# Altium footprint library PowerDistLib.PcbLib: 31 footprints (part 2 of 2)
Each footprint in its own frame and in the unit in brackets; x right, y up, seen from the top. Pads: shape width x height; smd on the part's side, far side on the other; paste and mask are expansions set on the pad; w line width, h text height; cw(c..) or ccw(c..) is an arc to the next point about the centre after c.
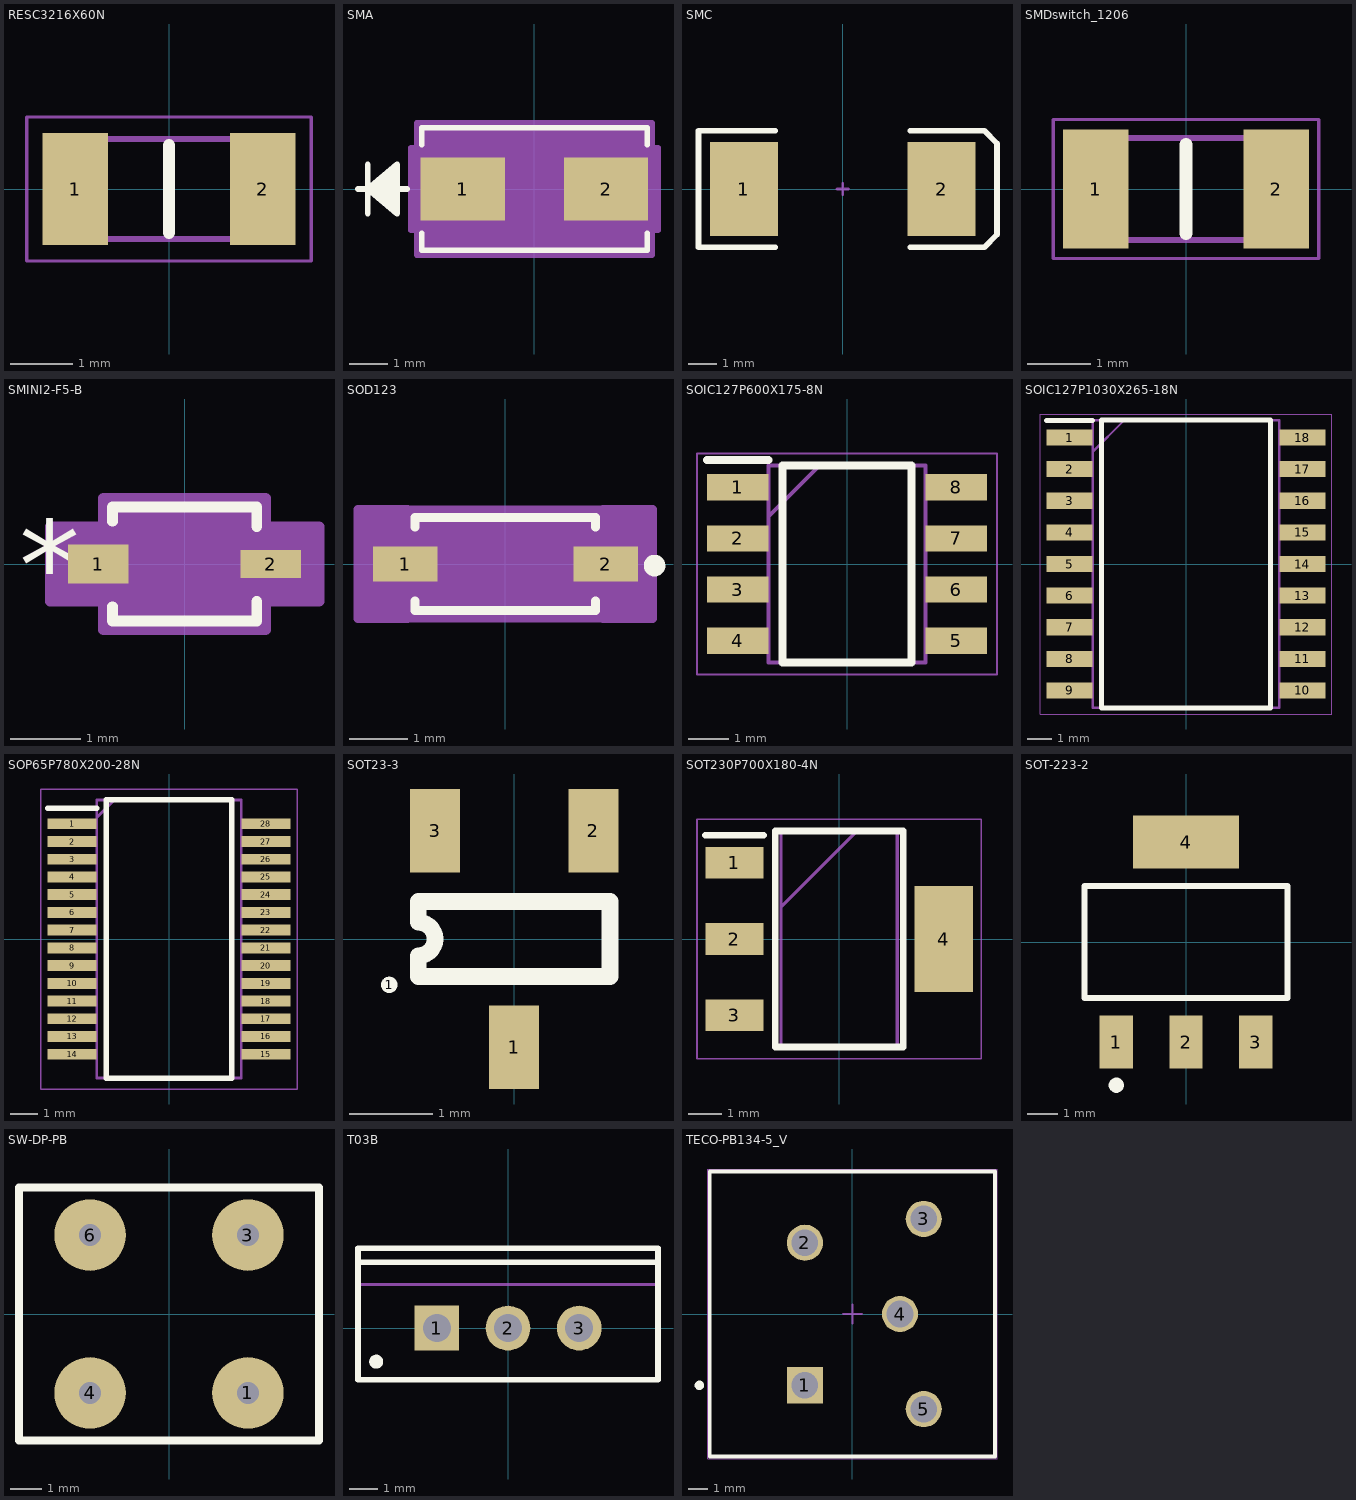
[diagram p1: the footprints below, top view; thin cyan lines are the x and y axes]

## RESC3216X60N [mm]
pads (2):
  rect 1.05x1.8 smd: 1(-1.5,0) 2(1.5,0)
Top Overlay:
  lines w0.2: 0,-0.7 0,0.7
Mechanical 15:
  lines w0.1: -1.575,-0.8 -1.575,0.8 1.575,0.8 1.575,-0.8 -1.575,-0.8
Mechanical 16:
  lines w0.05: -2.275,-1.15 -2.275,1.15 2.275,1.15 2.275,-1.15 -2.275,-1.15
3D body "CRCW12063K30FKEAC.stp": height 0.6, standoff 0, extent -1.575,-0.825 1.575,0.775
3D body: height 1.2, standoff 0, extent 0,-0.025 0,-0.025

## SMA [mm]
pads (2):
  rect 2.18x1.63 smd paste+0 mask+0: 1(-1.857,0) 2(1.857,0)
Top Overlay:
  lines w0.152: -4.573,0 -3.303,0 ; -4.319,-0.635 -4.319,0.635 ; -3.557,-0.508 -4.319,0 ; -3.557,-0.381 -4.319,0 ; -3.557,-0.254 -4.319,0 ; -3.557,-0.127 -4.319,0 ; -3.557,0.127 -4.319,0 ; -3.557,0.254 -4.319,0 ; -3.557,0.381 -4.319,0 ; -3.557,0.508 -4.319,0 ; -2.922,-1.148 -2.922,-1.587 2.922,-1.587 2.922,-1.148 ; -2.922,1.148 -2.922,1.587 2.922,1.587 2.922,1.148 ; -4.319,0 -3.557,-0.635 -3.557,0.635 -4.319,0
Mechanical 13:
  lines w0.025: -4.573,0 -3.303,0 ; -4.319,-0.635 -4.319,0.635 ; -3.557,-0.508 -4.319,0 ; -3.557,-0.381 -4.319,0 ; -3.557,-0.254 -4.319,0 ; -3.557,-0.127 -4.319,0 ; -3.557,0.127 -4.319,0 ; -3.557,0.254 -4.319,0 ; -3.557,0.381 -4.319,0 ; -3.557,0.508 -4.319,0 ; -4.319,0 -3.557,-0.635 -3.557,0.635 -4.319,0 ; -2.795,-1.46 -2.795,1.46 2.795,1.46 2.795,-1.46 -2.795,-1.46
Mechanical 15:
  region: -3.049,-1.069 -3.201,-1.069 -3.201,1.069 -3.049,1.069 -3.049,1.714 3.049,1.714 3.049,1.069 3.201,1.069 3.201,-1.069 3.049,-1.069 3.049,-1.714 -3.049,-1.714
  lines w0.152: -3.201,-1.069 -3.049,-1.069 -3.049,-1.714 3.049,-1.714 3.049,-1.069 3.201,-1.069 3.201,1.069 3.049,1.069 3.049,1.714 -3.049,1.714 -3.049,1.069 -3.201,1.069 -3.201,-1.069
3D body "SMA.stp": height 2.35, standoff 0, extent -2.795,-1.46 2.795,1.46
3D body: height 0.25, standoff 0, extent 1.905,0 1.905,0
3D body: height 0.25, standoff 0, extent -1.778,0 -1.778,0
3D body: height 0.25, standoff 0, extent 0,0 0,0
3D body: height 0.25, standoff 0, extent 0,0 0.254,0.254

## SMC [mm] "DO-214-AB/SMC; 2 C-Bend Leads; Body 7.9 x 5.9 mm, inc. leads (LxW)"
height 2.65
pads (2):
  rect 2.4x3.3 smd: 1(-3.475,0) 2(3.475,0)
Top Overlay:
  lines w0.2: -2.375,-2.05 -5.075,-2.05 -5.075,2.05 -2.375,2.05 ; 2.375,-2.05 4.975,-2.05 5.425,-1.6 5.425,1.6 4.975,2.055 ; 2.375,2.05 4.975,2.05
Mechanical 1:
  lines w0.1: -0.2,0 0.2,0 ; 0,-0.2 0,0.2
3D body "DO-214AB.STEP": height 2.97, standoff 0.04, extent -4.025,-3.202 4.025,3.048

## SMDswitch_1206 [mm]
pads (2):
  rect 1.03x1.87 smd: 1(-1.42,0) 2(1.42,0)
Top Overlay:
  lines w0.2: 0,-0.7 0,0.7
Mechanical 15:
  lines w0.1: -1.6,-0.8 -1.6,0.8 1.6,0.8 1.6,-0.8 -1.6,-0.8
Mechanical 16:
  lines w0.05: -2.085,-1.09 -2.085,1.09 2.085,1.09 2.085,-1.09 -2.085,-1.09
3D body "tact_switch_K2-1808SN-A4SW.STEP": height 0.46, standoff -0.02, extent -1.53,-0.812 1.53,0.813

## SMINI2-F5-B [mil]
pads (2):
  rect 34x22 smd: 1(-48.5,0)
  rect 34x16 smd: 2(48.5,0)
Top Overlay:
  lines w6: -40.5,-24.1 -40.5,-32 40.5,-32 40.5,-21.1 ; -40.5,24.1 -40.5,32 40.5,32 40.5,21.1
  text "*" at -93,-25 h50
Mechanical 13:
  lines w1: -35.5,-13.5 -22,-27 ; -35.5,13.5 -22,27 ; -53.5,-11 -53.5,11 -35.5,11 -35.5,-11 -53.5,-11 ; -35.5,-27 35.5,-27 35.5,27 -35.5,27 -35.5,-27 ; 35.5,-8 35.5,8 53.5,8 53.5,-8 35.5,-8
  text "*" at -38,-25 h50
Mechanical 15:
  region: -45.5,-21 -75.5,-21 -75.5,21 -45.5,21 -45.5,37 45.5,37 45.5,21 75.5,21 75.5,-21 45.5,-21 45.5,-37 -45.5,-37
  lines w6: -75.5,-21 -75.5,21 -45.5,21 -45.5,37 45.5,37 45.5,21 75.5,21 75.5,-21 45.5,-21 45.5,-37 -45.5,-37 -45.5,-21 -75.5,-21
3D body: height 10, standoff 0, extent 0,0 10,10
3D body "SMINI2-F5-B.stp": height 32.09, standoff 0, extent -68.5,-24.51 38.51,29.51
3D body: height 10, standoff 0, extent -25,-10 -25,-10

## SOD123 [mm]
pads (2):
  rect 1.111x0.601 smd paste+0 mask+0: 1(-1.725,0) 2(1.725,0)
Top Overlay:
  lines w0.152: -1.552,-0.633 -1.552,-0.802 1.552,-0.802 1.552,-0.633 ; -1.552,0.633 -1.552,0.802 1.552,0.802 1.552,0.633
  lines w0.254: 2.62,-0.005 ccw(c2.565,-0.027) 2.624,-0.03
Mechanical 13:
  lines w0.025: -1.425,-0.337 -1.087,-0.675 ; -1.425,0.337 -1.087,0.675 ; -1.925,-0.275 -1.425,-0.275 -1.425,0.275 -1.925,0.275 -1.925,-0.275 ; -1.425,-0.675 -1.425,0.675 1.425,0.675 1.425,-0.675 -1.425,-0.675 ; 1.425,-0.275 1.925,-0.275 1.925,0.275 1.425,0.275 1.425,-0.275
  text "*" at -1.488,-0.635 h1.27
Mechanical 15:
  region: -1.679,-0.937 -2.535,-0.937 -2.535,0.937 -1.679,0.937 -1.679,0.929 1.679,0.929 1.679,0.937 2.535,0.937 2.535,-0.937 1.679,-0.937 1.679,-0.929 -1.679,-0.929
  lines w0.152: -2.535,-0.937 -1.679,-0.937 -1.679,-0.929 1.679,-0.929 1.679,-0.937 2.535,-0.937 2.535,0.937 1.679,0.937 1.679,0.929 -1.679,0.929 -1.679,0.937 -2.535,0.937 -2.535,-0.937
3D body: height 0.25, standoff 0, extent -0.381,-0.381 -0.381,-0.381
3D body "SOD123.stp": height 0.81, standoff 0, extent -1.925,-0.675 1.925,0.675
3D body: height 0.25, standoff 0, extent -0.635,0 -0.635,0
3D body: height 0.25, standoff 0, extent 0,0 0.254,0.254

## SOIC127P600X175-8N [mm]
pads (8):
  rect 1.525x0.65 smd: 1(-2.712,1.905) 2(-2.712,0.635) 3(-2.712,-0.635) 4(-2.712,-1.905) 5(2.712,-1.905) 6(2.712,-0.635) 7(2.712,0.635) 8(2.712,1.905)
Top Overlay:
  lines w0.2: -3.475,2.58 -1.95,2.58 ; -1.6,-2.45 1.6,-2.45 1.6,2.45 -1.6,2.45 -1.6,-2.45
Mechanical 15:
  lines w0.1: -1.95,1.18 -0.68,2.45 ; -1.95,-2.45 1.95,-2.45 1.95,2.45 -1.95,2.45 -1.95,-2.45
Mechanical 16:
  lines w0.05: -3.725,-2.75 3.725,-2.75 3.725,2.75 -3.725,2.75 -3.725,-2.75
3D body "SN65HVD1050D.stp": height 1.75, standoff 0, extent -3,-2.45 3,2.45

## SOIC127P1030X265-18N [mm]
pads (18):
  rect 1.85x0.65 smd: 1(-4.675,5.08) 2(-4.675,3.81) 3(-4.675,2.54) 4(-4.675,1.27) 5(-4.675,0) 6(-4.675,-1.27) 7(-4.675,-2.54) 8(-4.675,-3.81) 9(-4.675,-5.08) 10(4.675,-5.08) 11(4.675,-3.81) 12(4.675,-2.54) 13(4.675,-1.27) 14(4.675,0) 15(4.675,1.27) 16(4.675,2.54) 17(4.675,3.81) 18(4.675,5.08)
Top Overlay:
  lines w0.2: -5.6,5.755 -3.75,5.755 ; -3.4,-5.775 -3.4,5.775 3.4,5.775 3.4,-5.775 -3.4,-5.775
Mechanical 15:
  lines w0.1: -3.75,4.505 -2.48,5.775 ; -3.75,-5.775 -3.75,5.775 3.75,5.775 3.75,-5.775 -3.75,-5.775
Mechanical 16:
  lines w0.05: -5.85,-6.025 -5.85,6.025 5.85,6.025 5.85,-6.025 -5.85,-6.025
3D body "MCP2515-E_SO.stp": height 2.65, standoff 0, extent -5.15,-5.775 5.15,5.775

## SOP65P780X200-28N [mm]
pads (28):
  rect 1.8x0.4 smd: 1(-3.55,4.225) 2(-3.55,3.575) 3(-3.55,2.925) 4(-3.55,2.275) 5(-3.55,1.625) 6(-3.55,0.975) 7(-3.55,0.325) 8(-3.55,-0.325) 9(-3.55,-0.975) 10(-3.55,-1.625) 11(-3.55,-2.275) 12(-3.55,-2.925) 13(-3.55,-3.575) 14(-3.55,-4.225) 15(3.55,-4.225) 16(3.55,-3.575) 17(3.55,-2.925) 18(3.55,-2.275) 19(3.55,-1.625) 20(3.55,-0.975) 21(3.55,-0.325) 22(3.55,0.325) 23(3.55,0.975) 24(3.55,1.625) 25(3.55,2.275) 26(3.55,2.925) 27(3.55,3.575) 28(3.55,4.225)
Top Overlay:
  lines w0.2: -4.45,4.8 -2.65,4.8 ; -2.3,-5.1 2.3,-5.1 2.3,5.1 -2.3,5.1 -2.3,-5.1
Mechanical 15:
  lines w0.1: -2.65,4.45 -2,5.1 ; -2.65,-5.1 2.65,-5.1 2.65,5.1 -2.65,5.1 -2.65,-5.1
Mechanical 16:
  lines w0.05: -4.7,-5.5 4.7,-5.5 4.7,5.5 -4.7,5.5 -4.7,-5.5
3D body "FT232RL-REEL.stp": height 2, standoff 0, extent -3.9,-5.1 3.9,5.1

## SOT23-3 [mm] "SOT23-3"
pads (4):
  round 0.2 on Top Overlay: 1(-1.5,-0.55)
  rect 0.6x1 smd: 1(0,-1.3) 2(0.95,1.3) 3(-0.95,1.3)
Top Overlay:
  lines w0.2: -1.15,-0.45 -1.15,-0.2 ccw(c-1.15,0) -1.15,0.2 -1.15,0.45 1.15,0.45 1.15,-0.45 -1.15,-0.45
3D body "SOT23-3.step": height 1.3, standoff 0, extent -1.45,-1.4 1.45,1.4

## SOT230P700X180-4N [mm]
pads (4):
  rect 1.75x0.95 smd: 1(-3.15,2.3) 2(-3.15,0) 3(-3.15,-2.3)
  rect 1.75x3.2 smd: 4(3.15,0)
Top Overlay:
  lines w0.2: -4.025,3.125 -2.275,3.125 ; -1.925,-3.25 -1.925,3.25 1.925,3.25 1.925,-3.25 -1.925,-3.25
Mechanical 15:
  lines w0.1: -1.75,0.95 0.55,3.25 ; -1.75,-3.25 -1.75,3.25 1.75,3.25 1.75,-3.25 -1.75,-3.25
Mechanical 16:
  lines w0.05: -4.275,-3.6 -4.275,3.6 4.275,3.6 4.275,-3.6 -4.275,-3.6
3D body "MP04A.stp": height 1.81, standoff 0, extent -3.645,-3.353 3.645,3.353

## SOT-223-2 [mm] "SOT-223/SC-73; 4 Leads; Body 6.7 x 7.3 mm, inc. leads (LxW max)"
height 1.75
pads (4):
  rect 1.1x1.75 smd: 1(-2.3,-3.3) 2(0,-3.3) 3(2.3,-3.3)
  rect 3.5x1.75 smd: 4(0,3.3)
Top Overlay:
  circle w0.25: c-2.3,-4.725 r0.125
  lines w0.2: -3.35,-1.85 -3.35,1.85 3.35,1.85 3.35,-1.85 -3.35,-1.85
3D body "SOT-223-2.STEP": height 1.85, standoff -0.05, extent -3.35,-3.704 3.35,3.5

## SW-DP-PB [mm] "Double Pole Push Button for Reset Circuit"
pads (4):
  round 2.3 hole 0.711 square: 1(2.54,-2.54) 3(2.54,2.54) 4(-2.54,-2.54) 6(-2.54,2.54)
Top Overlay:
  lines w0.254: -4.826,-4.064 4.826,-4.064 4.826,4.064 -4.826,4.064 -4.826,-4.064
3D body "EP21SD1CQE.stp": height 18.85, standoff -3.3, extent -3.937,-4.762 4.191,4.382

## T03B [mm] "TO, Thru-Hole, Vertical, Heatsink Mounted; 3 In-Line Leads; Pitch 2.54 mm"
height 19.4
pads (3):
  rect 1.6x1.6 hole 1: 1(-2.54,0)
  round 1.6 hole 1: 2(0,0) 3(2.54,0)
Top Overlay:
  circle w0.25: c-4.7,-1.2 r0.125
  lines w0.2: -5.35,2.35 5.35,2.35 ; -5.35,-1.85 -5.35,2.85 5.35,2.85 5.35,-1.85 -5.35,-1.85
Mechanical 13:
  lines w0.1: -5.35,1.55 5.35,1.55 ; -5.35,-1.85 5.35,-1.85 5.35,2.85 -5.35,2.85 -5.35,-1.85
Mechanical 15:
  lines w0.1: -0.5,0 0.5,0 ; 0,-0.5 0,0.5
3D body: height 12.9, standoff 4, extent -5.4,-1.9 5.4,2.9
3D body: height 19.4, standoff 12.9, extent -5.349,1.551 5.349,2.849

## TECO-PB134-5_V [mm] "THD, 5-Leads, Body 15x15mm, Height 20mm"
height 20
pads (5):
  rect 1.9x1.9 hole 1.4: 1(-2.5,-3.75)
  round 1.9 hole 1.4: 2(-2.5,3.75) 3(3.75,5) 4(2.5,0) 5(3.75,-5)
Top Overlay:
  circle w0.25: c-8.05,-3.75 r0.125
  lines w0.2: -7.5,-7.5 -7.5,7.5 7.5,7.5 7.5,-7.5 -7.5,-7.5
Mechanical 13:
  lines w0.1: -7.5,-7.5 -7.5,7.5 7.5,7.5 7.5,-7.5 -7.5,-7.5
Mechanical 15:
  lines w0.05: -7.6,-7.6 -7.6,7.6 7.6,7.6 7.6,-7.6 -7.6,-7.6
  lines w0.1: -0.5,0 0.5,0 ; 0,-0.5 0,0.5
3D body: height 0.5, standoff -3.7, extent 3.35,4.6 4.15,5.4
3D body: height 0.5, standoff -3.7, extent 2.1,-0.4 2.9,0.4
3D body: height 0.5, standoff -3.7, extent 3.35,-5.4 4.15,-4.6
3D body: height 0.5, standoff -3.7, extent -2.9,-4.15 -2.1,-3.35
3D body: height 0.5, standoff -3.7, extent -2.9,3.35 -2.1,4.15
3D body: height 0.5, standoff 0, extent -7.5,-7.5 -7,-7
3D body: height 0.5, standoff 0, extent 7,-7.5 7.5,-7
3D body: height 0.5, standoff 0, extent -7.5,7 -7,7.5
3D body: height 0.5, standoff 0, extent 7,7 7.5,7.5
3D body: height 20, standoff 0.5, extent -7.5,-7.5 7.5,7.5